# Altium footprint library BGA56C40P8X7_416X356X55.PcbLib: 1 footprints
Each footprint in its own frame and in the unit in brackets; x right, y up, seen from the top. Pads: shape width x height; smd on the part's side, far side on the other; paste and mask are expansions set on the pad; w line width, h text height; cw(c..) or ccw(c..) is an arc to the next point about the centre after c.
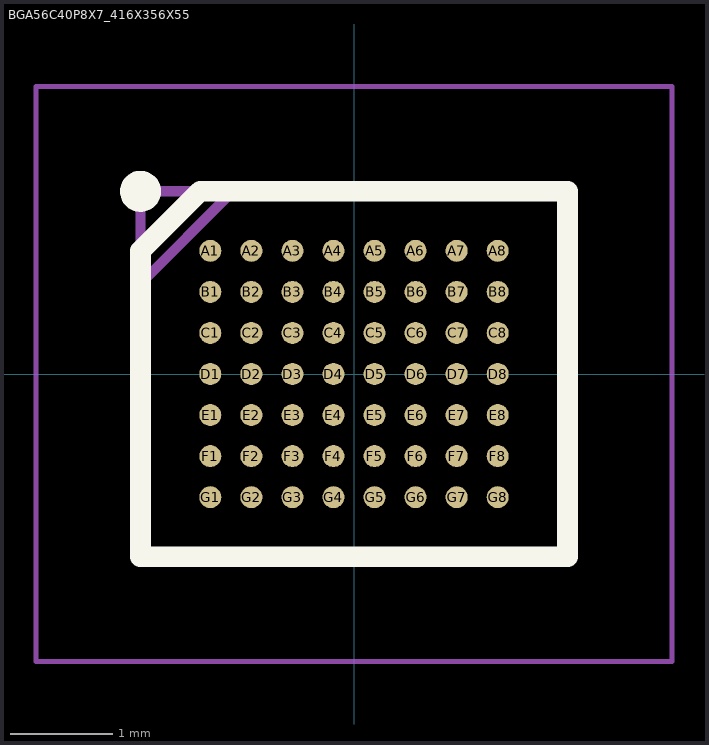
[diagram p0: the footprint, top view; thin cyan lines are the x and y axes]

## BGA56C40P8X7_416X356X55 [mm]
pads (56):
  round 0.214 smd: A1(-1.4,1.2) A2(-1,1.2) A3(-0.6,1.2) A4(-0.2,1.2) A5(0.2,1.2) A6(0.6,1.2) A7(1,1.2) A8(1.4,1.2) B1(-1.4,0.8) B2(-1,0.8) B3(-0.6,0.8) B4(-0.2,0.8) B5(0.2,0.8) B6(0.6,0.8) B7(1,0.8) B8(1.4,0.8) C1(-1.4,0.4) C2(-1,0.4) C3(-0.6,0.4) C4(-0.2,0.4) C5(0.2,0.4) C6(0.6,0.4) C7(1,0.4) C8(1.4,0.4) D1(-1.4,0) D2(-1,0) D3(-0.6,0) D4(-0.2,0) D5(0.2,0) D6(0.6,0) D7(1,0) D8(1.4,0) E1(-1.4,-0.4) E2(-1,-0.4) E3(-0.6,-0.4) E4(-0.2,-0.4) E5(0.2,-0.4) E6(0.6,-0.4) E7(1,-0.4) E8(1.4,-0.4) F1(-1.4,-0.8) F2(-1,-0.8) F3(-0.6,-0.8) F4(-0.2,-0.8) F5(0.2,-0.8) F6(0.6,-0.8) F7(1,-0.8) F8(1.4,-0.8) G1(-1.4,-1.2) G2(-1,-1.2) G3(-0.6,-1.2) G4(-0.2,-1.2) G5(0.2,-1.2) G6(0.6,-1.2) G7(1,-1.2) G8(1.4,-1.2)
Top Overlay:
  circle w0.2: c-2.08,1.78 r0.1
  lines w0.2: -2.08,-1.78 2.08,-1.78 2.08,1.78 -1.5,1.78 -2.08,1.2 -2.08,-1.78
Mechanical 15:
  lines w0.1: -2.08,0.88 -1.18,1.78 ; -2.08,-1.78 2.08,-1.78 2.08,1.78 -2.08,1.78 -2.08,-1.78
Mechanical 20:
  lines w0.05: -3.1,-2.8 3.1,-2.8 3.1,2.8 -3.1,2.8 -3.1,-2.8